# Altium schematic symbol library ic-amplifier.SchLib: 24 symbols
Pins are listed as number, name and electrical type; pins without a type are passive.

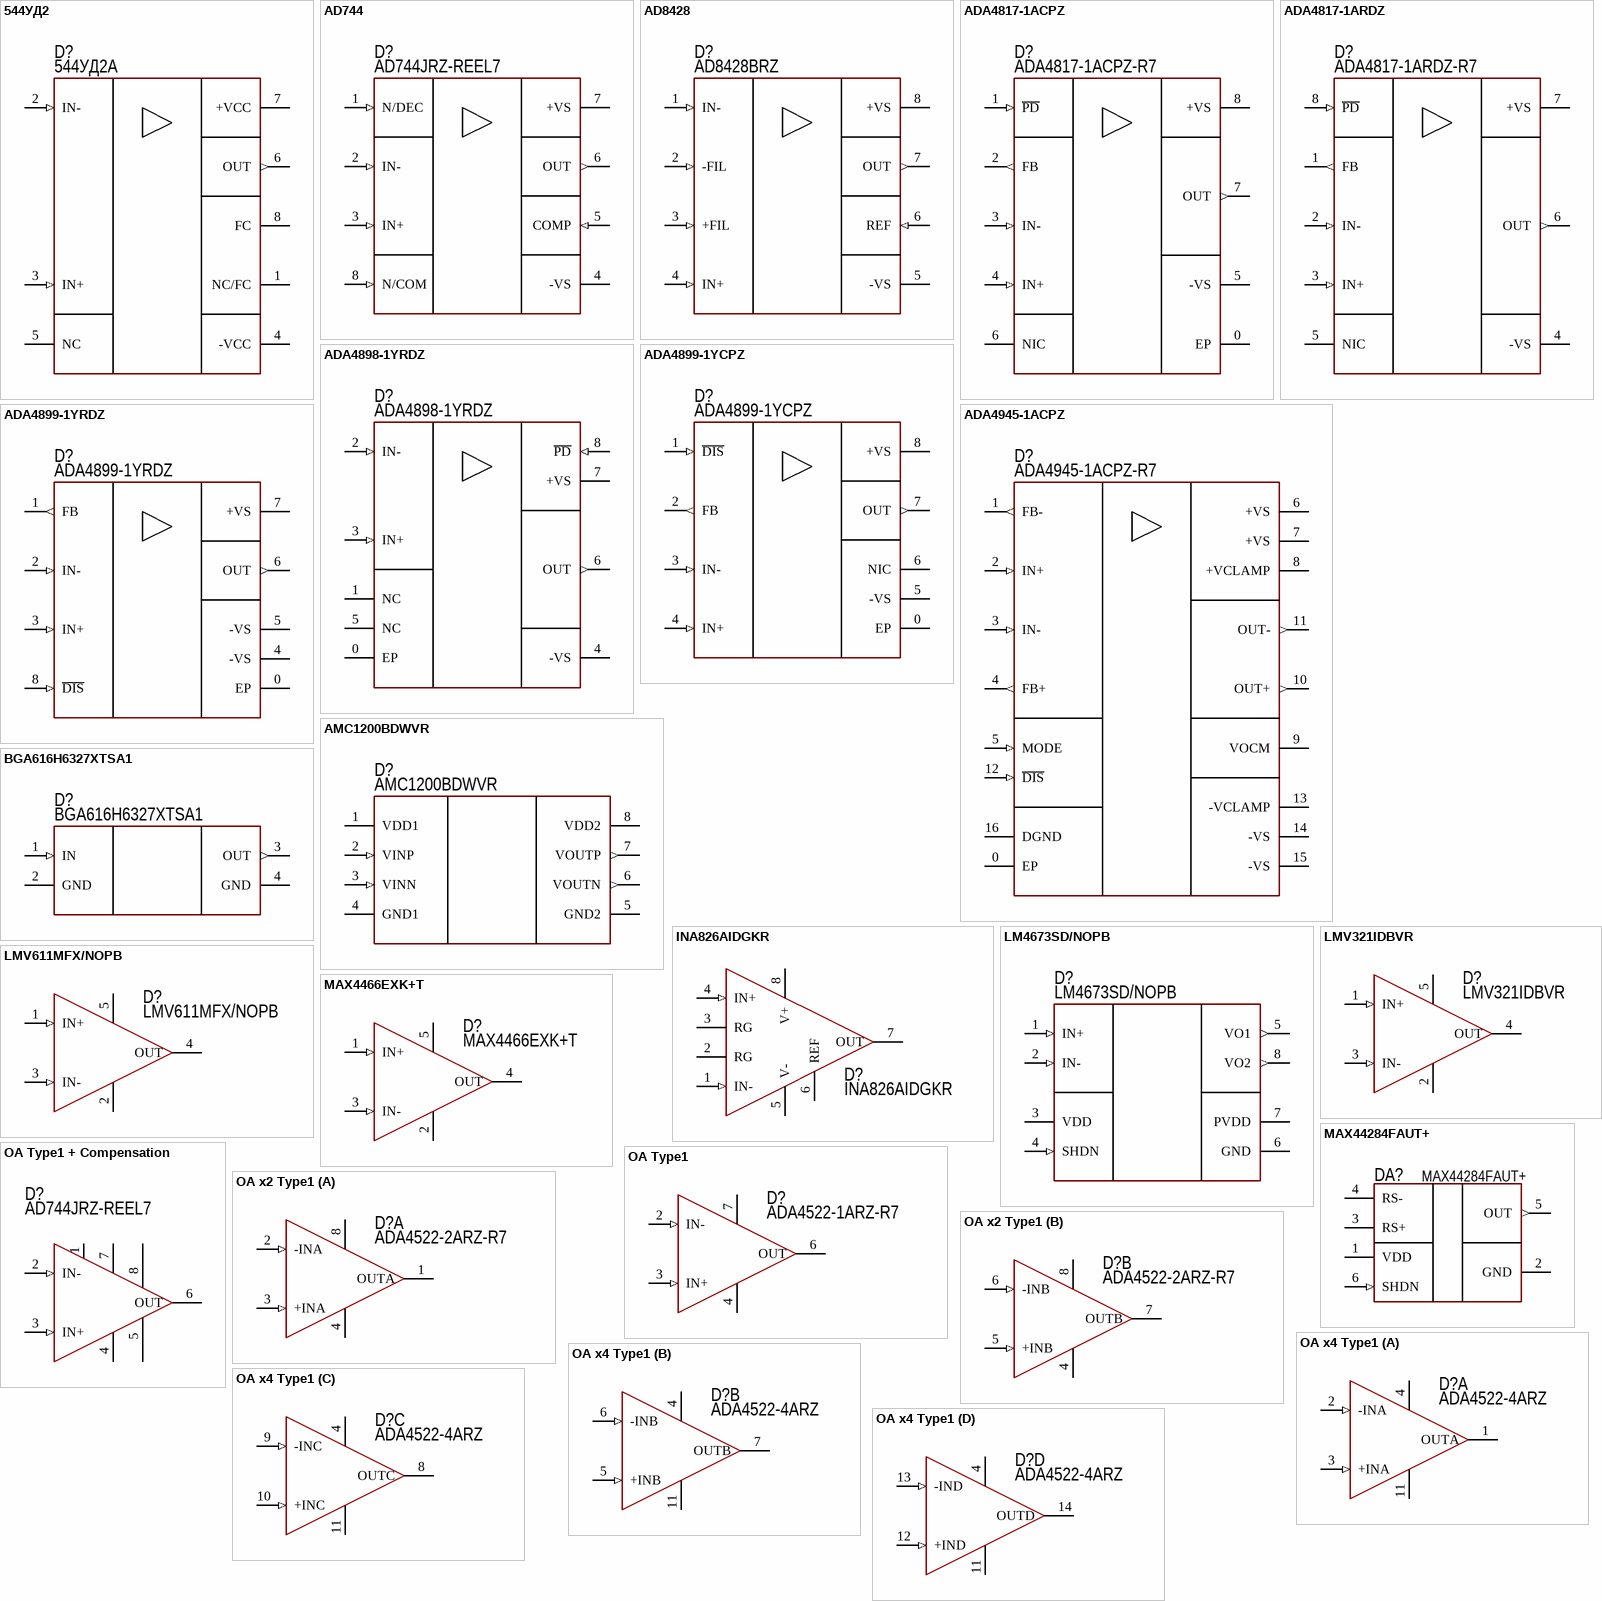
[diagram p0: symbols 544УД2 to OA x4 Type1]

## 544УД2
designator D?  PartNumber: 544УД2А
Operational Amplifier; Manufacturer: NZPP Vostok; ValueManufacturerPartNumber: Operational Amplifiers, 10V, 20 MHz, 5...15V, -40...+105°C, 3104; Supply: 5...15V; OutputType: 10V; GainBandwidth: 20 MHz; HelpURL: https://eandc.ru/pdf/mikroskhema/k544ud2.pdf; Package: 3104; ComponentType: Operational Amplifiers; Temperature: -40...+105°C
footprint TO-99 (3101/301) (TO-99, 8 Leads, Body Dia. 9.4mm (max))
footprint TO-99 (3101/301) S7.5 (F10) (TO-99, 8 Leads, Body Dia. 9.4mm (max))
footprint TO-99 (3101/301) S10.0 (F12) (TO-99, 8 Leads, Body Dia. 9.4mm (max))
footprint TO-99 (3104/302) (TO-99, 8 Leads, Body Dia. 9.4mm (max))
footprint TO-99 (3104/302) S7.5 (F10) (TO-99, 8 Leads, Body Dia. 9.4mm (max))
footprint TO-99 (3104/302) S10.0 (F12) (TO-99, 8 Leads, Body Dia. 9.4mm (max))
pins: 1 NC/FC, 2 IN- (in), 3 IN+ (in), 4 -VCC (power), 5 NC, 6 OUT (out), 7 +VCC (power), 8 FC

## AD744
designator D?  PartNumber: AD744JRZ-REEL7
Precision Amplifier; Manufacturer: Analog Devices; ValueManufacturerPartNumber: Operational Amplifiers, 6.25 mA, 13 MHz, 9...36V, 0...+70°C, SOIC-8; Supply: 9...36V; OutputType: 6.25 mA; GainBandwidth: 13 MHz; HelpURL: https://eu.mouser.com/ProductDetail/Analog-Devices/AD744JRZ-REEL7?qs=NmRFExCfTkFEVKUoto0KMg%3D%3D; Package: SOIC-8; ComponentType: Operational Amplifiers; Temperature: 0...+70°C
footprint 8-SOIC (pitch 1.27 mm)
footprint TO-99 (TO-99, 8 Leads, Body Dia. 9.4mm (max))
pins: 1 N/DEC (in), 2 IN- (in), 3 IN+ (in), 4 -VS (power), 5 COMP (in), 6 OUT (out), 7 +VS (power), 8 N/COM (in)

## AD8428
designator D?  PartNumber: AD8428BRZ
Instrumentation Amplifier; Manufacturer: Analog Devices; ValueManufacturerPartNumber: Operational Amplifiers, Gain 200 V/V, 3.5 MHz, 4...18V, -40...+85°C, SOIC-8; Supply: 4...18V; OutputType: Gain 200 V/V; GainBandwidth: 3.5 MHz; HelpURL: https://eu.mouser.com/ProductDetail/Analog-Devices/AD8428BRZ?qs=%2FtpEQrCGXCzujlzsk1JldA%3D%3D; Package: SOIC-8; ComponentType: Operational Amplifiers; Temperature: -40...+85°C
footprint 8-SOIC (pitch 1.27 mm)
pins: 1 IN- (in), 2 -FIL (in), 3 +FIL (in), 4 IN+ (in), 5 -VS (power), 6 REF (in), 7 OUT (out), 8 +VS (power)

## ADA4817-1ACPZ
designator D?  PartNumber: ADA4817-1ACPZ-R7
Operational Amplifier; Manufacturer: Analog Devices; ValueManufacturerPartNumber: Operational Amplifiers, 70 mA, 1050 MHz, 5...10V, -40...+105°C, LFCSP-8; Supply: 5...10V; OutputType: 70 mA; GainBandwidth: 1050 MHz; HelpURL: https://eu.mouser.com/ProductDetail/Analog-Devices/ADA4817-1ACPZ-R7?qs=BpaRKvA4VqEO0dZdQBLGrA%3D%3D; Package: LFCSP-8; ComponentType: Operational Amplifiers; Temperature: -40...+105°C
footprint 8-LFCSP (SON (DFN), 0.50mm pitch, 8 pin, 3mm X 3mm X 0.9mm H body (w/thermal tab 1.6 X 1.89mm),  IPC Medium Density)
pins: 0 EP, 1 ~{PD} (in), 2 FB (out), 3 IN- (in), 4 IN+ (in), 5 -VS (power), 6 NIC, 7 OUT (out), 8 +VS (power)

## ADA4817-1ARDZ
designator D?  PartNumber: ADA4817-1ARDZ-R7
Operational Amplifier; Manufacturer: Analog Devices; ValueManufacturerPartNumber: Operational Amplifiers, 70 mA, 1050 MHz, 5...10V, -40...+105°C, SOIC-8; Supply: 5...10V; OutputType: 70 mA; GainBandwidth: 1050 MHz; HelpURL: https://eu.mouser.com/ProductDetail/Analog-Devices/ADA4817-1ARDZ-R7?qs=BpaRKvA4VqHC4EHSVnlDDA%3D%3D; Package: SOIC-8; ComponentType: Operational Amplifiers; Temperature: -40...+105°C
footprint 8-SOIC (pitch 1.27 mm)
pins: 1 FB (out), 2 IN- (in), 3 IN+ (in), 4 -VS (power), 5 NIC, 6 OUT (out), 7 +VS (power), 8 ~{PD} (in)

## ADA4898-1YRDZ
designator D?  PartNumber: ADA4898-1YRDZ
High Speed Operational Amplifier; Manufacturer: Analog Devices; ValueManufacturerPartNumber: Operational Amplifiers, 40 mA, 50 MHz, 9...36V, -40...+105°C, SOIC-8; Supply: 9...36V; OutputType: 40 mA; GainBandwidth: 50 MHz; HelpURL: https://eu.mouser.com/ProductDetail/Analog-Devices/ADA4898-1YRDZ?qs=BpaRKvA4VqE4wDw6zFHOYw%3D%3D; Package: SOIC-8; ComponentType: Operational Amplifiers; Temperature: -40...+105°C
footprint 8-SOIC-PAD (pitch 1.27 mm, power pad)
pins: 0 EP, 1 NC, 2 IN- (in), 3 IN+ (in), 4 -VS (power), 5 NC, 6 OUT (out), 7 +VS (power), 8 ~{PD} (in)

## ADA4899-1YCPZ
designator D?  PartNumber: ADA4899-1YCPZ
High Speed Operational Amplifier; Manufacturer: Analog Devices; ValueManufacturerPartNumber: Operational Amplifiers, 30 mA, 280 MHz, 4.5...12V, -40...+125°C, LFCSP-8; Supply: 4.5...12V; OutputType: 30 mA; GainBandwidth: 280 MHz; HelpURL: https://eu.mouser.com/ProductDetail/Analog-Devices/ADA4899-1YCPZ-R7?qs=BpaRKvA4VqHNEVJSeiw3rA%3D%3D; Package: LFCSP-8; ComponentType: Operational Amplifiers; Temperature: -40...+125°C
footprint 8-LFCSP (SON (DFN), 0.50mm pitch, 8 pin, 3mm X 3mm X 0.9mm H body (w/thermal tab 1.6 X 1.89mm),  IPC Medium Density)
pins: 0 EP, 1 ~{DIS} (in), 2 FB (out), 3 IN- (in), 4 IN+ (in), 5 -VS (power), 6 NIC, 7 OUT (out), 8 +VS (power)

## ADA4899-1YRDZ
designator D?  PartNumber: ADA4899-1YRDZ
High Speed Operational Amplifier; Manufacturer: Analog Devices; ValueManufacturerPartNumber: Operational Amplifiers, 30 mA, 280 MHz, 4.5...12V, -40...+125°C, SOIC-8; Supply: 4.5...12V; OutputType: 30 mA; GainBandwidth: 280 MHz; HelpURL: https://eu.mouser.com/ProductDetail/Analog-Devices/ADA4899-1YRDZ?qs=BpaRKvA4VqHdL2g2VfaVeQ%3D%3D; Package: SOIC-8; ComponentType: Operational Amplifiers; Temperature: -40...+125°C
footprint 8-SOIC-PAD (pitch 1.27 mm, power pad)
pins: 0 EP, 1 FB (out), 2 IN- (in), 3 IN+ (in), 4 -VS (power), 5 -VS (power), 6 OUT (out), 7 +VS (power), 8 ~{DIS} (in)

## ADA4945-1ACPZ
designator D?  PartNumber: ADA4945-1ACPZ-R7
Differential Amplifier; Manufacturer: Analog Devices; ValueManufacturerPartNumber: Differential Amplifier, Rail-to-Rail, 145 MHz, 3...10V, -40...+125°C, LFCSP-16; Supply: 3...10V; OutputType: Rail-to-Rail; GainBandwidth: 145 MHz; HelpURL: https://eu.mouser.com/ProductDetail/Analog-Devices/ADA4945-1ACPZ-R7?qs=MLItCLRbWszWbECGmcziMA%3D%3D; Package: LFCSP-16; ComponentType: Differential Amplifier; Temperature: -40...+125°C
footprint 16-LFCSP (QFN, 0.50mm Pitch, Square; 4 Pin X 4 Pin, 3mm X 3mm X 0.80mm H Body (w/Thermal tab 1.60 X 1.60mm),  IPC Medium Density)
pins: 0 EP, 1 FB- (out), 2 IN+ (in), 3 IN- (in), 4 FB+ (out), 5 MODE (in), 6 +VS (power), 7 +VS (power), 8 +VCLAMP (power), 9 VOCM, 10 OUT+ (out), 11 OUT- (out), 12 ~{DIS} (in), 13 -VCLAMP (power), 14 -VS (power), 15 -VS (power), 16 DGND

## AMC1200BDWVR
designator D?  PartNumber: AMC1200BDWVR
Isolator amplifier; Manufacturer: Texas Instruments; ValueManufacturerPartNumber: IC isolator amplifier, Differential, 100 kHz, 2.7...5.5V, -40...+105°C, 8-SOIC; Supply: 2.7...5.5V; OutputType: Differential; GainBandwidth: 100 kHz; HelpURL: https://www.digikey.com/product-detail/en/texas-instruments/AMC1200BDWVR/296-39898-1-ND/5177775; Package: 8-SOIC; ComponentType: IC isolator amplifier; Temperature: -40...+105°C
footprint 8-SOIC-W (pitch 1.27 mm, isolator)
pins: 1 VDD1 (power), 2 VINP (in), 3 VINN (in), 4 GND1 (power), 5 GND2 (power), 6 VOUTN (out), 7 VOUTP (out), 8 VDD2 (power)

## BGA616H6327XTSA1
designator D?  PartNumber: BGA616H6327XTSA1
RF amplifier; Manufacturer: Texas Instruments; ValueManufacturerPartNumber: IC RF amplifier, 2.7 GHz, 19dB, -40...+125°C, SOT23-5; Gain: 19dB; Frequency: 2.7 GHz; HelpURL: https://www.digikey.com/product-detail/en/infineon-technologies/BGA616H6327XTSA1/BGA616H6327XTSA1CT-ND/2410159; Package: SOT23-5; ComponentType: IC RF amplifier; Temperature: -40...+125°C
footprint SOT343
pins: 1 IN (in), 2 GND, 3 OUT (out), 4 GND

## INA826AIDGKR
designator D?  PartNumber: INA826AIDGKR
OP amplifier; Manufacturer: Texas Instruments; ValueManufacturerPartNumber: Instrumentation, Rail-to-Rail, 1 MHz, 3...36V, -40...+125°C, VSSOP; Supply: 3...36V; OutputType: Rail-to-Rail; GainBandwidth: 1 MHz; HelpURL: https://www.digikey.com/product-detail/en/texas-instruments/LMV321IDBVR/296-9567-1-ND/379849; Package: VSSOP; ComponentType: Instrumentation; Temperature: -40...+125°C
footprint 8-VSSOP
pins: 1 IN- (in), 2 RG, 3 RG, 4 IN+ (in), 5 V-, 6 REF, 7 OUT (power), 8 V+

## LM4673SD/NOPB
designator D?  PartNumber: LM4673SD/NOPB
Audio amplifier; Manufacturer: Texas Instruments; ValueManufacturerPartNumber: IC audio amplifier, Class D, 2.65W, 2.4...5.5V, -40...+85°C, 8-WSON; Supply: 2.4...5.5V; OutputType: Class D; OutputPower: 2.65W; HelpURL: https://www.digikey.com/product-detail/en/texas-instruments/LM4673SD-NOPB/LM4673SD-NOPBCT-ND/1207555; Package: 8-WSON; ComponentType: IC audio amplifier; Temperature: -40...+85°C
footprint 8-WSON (3x3) (3x3 mm, pitch 0.5 mm, power pad)
pins: 1 IN+ (in), 2 IN- (in), 3 VDD, 4 SHDN (in), 5 VO1 (out), 6 GND, 7 PVDD, 8 VO2 (out)

## LMV321IDBVR
designator D?  PartNumber: LMV321IDBVR
OP amplifier; Manufacturer: Texas Instruments; ValueManufacturerPartNumber: IC op amplifier, Rail-to-Rail, 1 MHz, 2.7...5.5V, -40...+125°C, SOT23-5; Supply: 2.7...5.5V; OutputType: Rail-to-Rail; GainBandwidth: 1 MHz; HelpURL: https://www.digikey.com/product-detail/en/texas-instruments/LMV321IDBVR/296-9567-1-ND/379849; Package: SOT23-5; ComponentType: IC op amplifier; Temperature: -40...+125°C
footprint SOT23-5 (pitch 0.95 mm)
pins: 1 IN+ (in), 2 V- (power), 3 IN- (in), 4 OUT (power), 5 V+ (power)

## LMV611MFX/NOPB
designator D?  PartNumber: LMV611MFX/NOPB
OP amplifier; Manufacturer: Texas Instruments; ValueManufacturerPartNumber: IC op amplifier, Rail-to-Rail, 1.5 MHz, 1.8...5.5V, -40...+125°C, SOT23-5; Supply: 1.8...5.5V; OutputType: Rail-to-Rail; GainBandwidth: 1.5 MHz; HelpURL: https://www.digikey.com/product-detail/en/texas-instruments/LMV611MFX-NOPB/296-47209-1-ND/7688219; Package: SOT23-5; ComponentType: IC op amplifier; Temperature: -40...+125°C
footprint SOT23-5 (pitch 0.95 mm)
pins: 1 IN+ (in), 2 V- (power), 3 IN- (in), 4 OUT (power), 5 V+ (power)

## MAX4466EXK+T
designator D?  PartNumber: MAX4466EXK+T
Microphone amplifier; Manufacturer: Maxim Integrated; ValueManufacturerPartNumber: IC microphone amplifier, Class AB, 20dB, 2.4...5.5V, -40...+85°C, SC70-5; Supply: 2.4...5.5V; OutputType: Class AB; Gain: 20dB; HelpURL: https://www.digikey.com/product-detail/en/maxim-integrated/MAX4466EXK-T/MAX4466EXK-CT-ND/5405773; Package: SC70-5; ComponentType: IC microphone amplifier; Temperature: -40...+85°C
footprint SC70-5 (pitch 0.95 mm)
pins: 1 IN+ (in), 2 V- (power), 3 IN- (in), 4 OUT (power), 5 V+ (power)

## MAX44284FAUT+
designator DA?  PartNumber: MAX44284FAUT+
current sense amplifier; Manufacturer: Maxim; Supply: 1.7...5.5V; Gain: 50; Input voltage range: -0.1-36V; HelpURL: https://static.chipdip.ru/lib/945/DOC011945577.pdf; Package: sot23-6; ComponentType: IC current sense amp; ValueManufacturerPartNumber: =ComponentType+', '+OutputType+', '+OutputPower+', '+Supply+', '+Temperature+', '+Package; Temperature: -40...+85°C
footprint SOT23-6 (pitch 0.95 mm)
pins: 1 VDD, 2 GND, 3 RS+, 4 RS-, 5 OUT (out), 6 SHDN (in)

## OA Type1
designator D?  PartNumber: ADA4522-1ARZ-R7
Operational Amplifier; Manufacturer: Analog Devices; ValueManufacturerPartNumber: IC op amplifier, Rail-to-Rail, 6.5 MHz, 4.5...55V, -40...+125°C, SOIC-8; Supply: 4.5...55V; OutputType: Rail-to-Rail; GainBandwidth: 6.5 MHz; HelpURL: https://eu.mouser.com/ProductDetail/Analog-Devices/ADA4522-1ARZ-R7?qs=FZGwosfx5a59B89NlgNptw%3D%3D; Package: SOIC-8; ComponentType: IC op amplifier; Temperature: -40...+125°C
footprint 8-SOIC (pitch 1.27 mm)
footprint 8-MSOP (pitch 0.65 mm)
footprint 8-DIP-300 (DIP 8 Leads; Row Spacing 7.62 mm; Pitch 2.54 mm)
pins: 2 IN- (in), 3 IN+ (in), 4 V- (power), 6 OUT (power), 7 V+ (power)

## OA Type1 + Compensation
designator D?  PartNumber: AD744JRZ-REEL7
Operational Amplifier; Manufacturer: Analog Devices; ValueManufacturerPartNumber: IC op amplifier, Compensation, 13 MHz, 9...36V, -55...+125°C, SOIC-8; Supply: 9...36V; OutputType: Compensation; GainBandwidth: 13 MHz; HelpURL: https://www.mouser.com/ProductDetail/Analog-Devices/AD744JRZ-REEL7?qs=NmRFExCfTkFEVKUoto0KMg%3D%3D; Package: SOIC-8; ComponentType: IC op amplifier; Temperature: -55...+125°C
footprint 8-SOIC (pitch 1.27 mm)
footprint TO-99 (TO-99, 8 Leads, Body Dia. 9.4mm (max))
footprint 8-DIP-300 (DIP 8 Leads; Row Spacing 7.62 mm; Pitch 2.54 mm)
pins: 1 (power), 2 IN- (in), 3 IN+ (in), 4 V- (power), 5 (power), 6 OUT (power), 7 V+ (power), 8 (power)

## OA x2 Type1
designator D?  PartNumber: ADA4522-2ARZ-R7
Dual Operational Amplifier; Manufacturer: Analog Devices; ValueManufacturerPartNumber: IC op amplifier, Rail-to-Rail, 6.5 MHz, 4.5...55V, -40...+125°C, SOIC-8; Supply: 4.5...55V; OutputType: Rail-to-Rail; GainBandwidth: 6.5 MHz; HelpURL: https://eu.mouser.com/ProductDetail/Analog-Devices/ADA4522-2ARZ-R7?qs=UfUFg%2FkmHHGcliMq813evA%3D%3D; Package: SOIC-8; ComponentType: IC op amplifier; Temperature: -40...+125°C
footprint 8-SOIC (pitch 1.27 mm)
footprint 8-MSOP (pitch 0.65 mm)
footprint 8-DIP-300 (DIP 8 Leads; Row Spacing 7.62 mm; Pitch 2.54 mm)
part A pins: 1 OUTA (power), 2 -INA (in), 3 +INA (in), 4 V- (power), 8 V+ (power)
part B pins: 4 V- (power), 5 +INB (in), 6 -INB (in), 7 OUTB (power), 8 V+ (power)

## OA x4 Type1
designator D?  PartNumber: ADA4522-4ARZ
Quad Operational Amplifier; Manufacturer: Analog Devices; ValueManufacturerPartNumber: IC op amplifier, Rail-to-Rail, 6.5 MHz, 4.5...55V, -40...+125°C, SOIC-14; Supply: 4.5...55V; OutputType: Rail-to-Rail; GainBandwidth: 6.5 MHz; HelpURL: https://eu.mouser.com/ProductDetail/Analog-Devices/ADA4522-4ARZ?qs=LpQOCaTXNHg%2F7X7Utmr1zg%3D%3D; Package: SOIC-14; ComponentType: IC op amplifier; Temperature: -40...+125°C
footprint 14-TSOP
footprint 14-SOIC (pitch 1.27 mm)
part A pins: 1 OUTA (power), 2 -INA (in), 3 +INA (in), 4 V+ (power), 11 V- (power)
part B pins: 4 V+ (power), 5 +INB (in), 6 -INB (in), 7 OUTB (power), 11 V- (power)
part C pins: 4 V+ (power), 8 OUTC (power), 9 -INC (in), 10 +INC (in), 11 V- (power)
part D pins: 4 V+ (power), 11 V- (power), 12 +IND (in), 13 -IND (in), 14 OUTD (power)

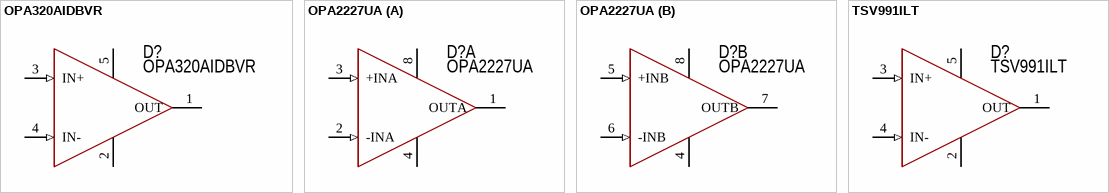
[diagram p1: symbols OPA320AIDBVR to TSV991ILT]

## OPA320AIDBVR
designator D?  PartNumber: OPA320AIDBVR
OP amplifier; Manufacturer: Texas Instruments; ValueManufacturerPartNumber: IC op amplifier, Rail-to-Rail, 20 MHz, 1.8...5.5V, -40...+125°C, SOT23-5; Supply: 1.8...5.5V; OutputType: Rail-to-Rail; GainBandwidth: 20 MHz; HelpURL: https://www.digikey.com/product-detail/en/texas-instruments/OPA320AIDBVR/296-29480-1-ND/2747411; Package: SOT23-5; ComponentType: IC op amplifier; Temperature: -40...+125°C
footprint SOT23-5 (pitch 0.95 mm)
pins: 1 OUT (power), 2 V- (power), 3 IN+ (in), 4 IN- (in), 5 V+ (power)

## OPA2227UA
designator D?  PartNumber: OPA2227UA
OP amplifier; Manufacturer: Texas Instruments; ValueManufacturerPartNumber: IC op amplifier, Rail-to-Rail, 8 MHz, 5...36V, -40...+85°C, SOIC-8; Supply: 5...36V; OutputType: Rail-to-Rail; GainBandwidth: 8 MHz; HelpURL: https://www.digikey.com/en/products/detail/texas-instruments/OPA2227UA/295554; Package: SOIC-8; ComponentType: IC op amplifier; Temperature: -40...+85°C
footprint 8-SOIC (pitch 1.27 mm)
part A pins: 1 OUTA (power), 2 -INA (in), 3 +INA (in), 4 V- (power), 8 V+ (power)
part B pins: 4 V- (power), 5 +INB (in), 6 -INB (in), 7 OUTB (power), 8 V+ (power)

## TSV991ILT
designator D?  PartNumber: TSV991ILT
OP amplifier; Manufacturer: STMicroelectronics; ValueManufacturerPartNumber: IC op amplifier, Rail-to-Rail, 20 MHz, 2.7...5.5V, -40...+125°C, SOT23-5; Supply: 2.7...5.5V; OutputType: Rail-to-Rail; GainBandwidth: 20 MHz; HelpURL: https://www.digikey.com/product-detail/en/stmicroelectronics/TSV991ILT/497-6001-1-ND/1578484; Package: SOT23-5; ComponentType: IC op amplifier; Temperature: -40...+125°C
footprint SOT23-5 (pitch 0.95 mm)
pins: 1 OUT (power), 2 V- (power), 3 IN+ (in), 4 IN- (in), 5 V+ (power)